# Altium schematic symbol library DIODE,Zener,5.6V,250mW,SMD.Schlib: 1 symbol
Pins are listed as number, name and electrical type; pins without a type are passive.

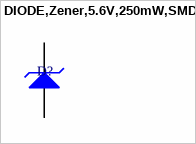
[diagram p0: symbol DIODE,Zener,5.6V,250mW,SMD]

## DIODE,Zener,5.6V,250mW,SMD
designator D?
pins: 1 K, 2 A